# EAGLE library part M4-32-T48 (library amd-mach)
AMD MACH SERIES
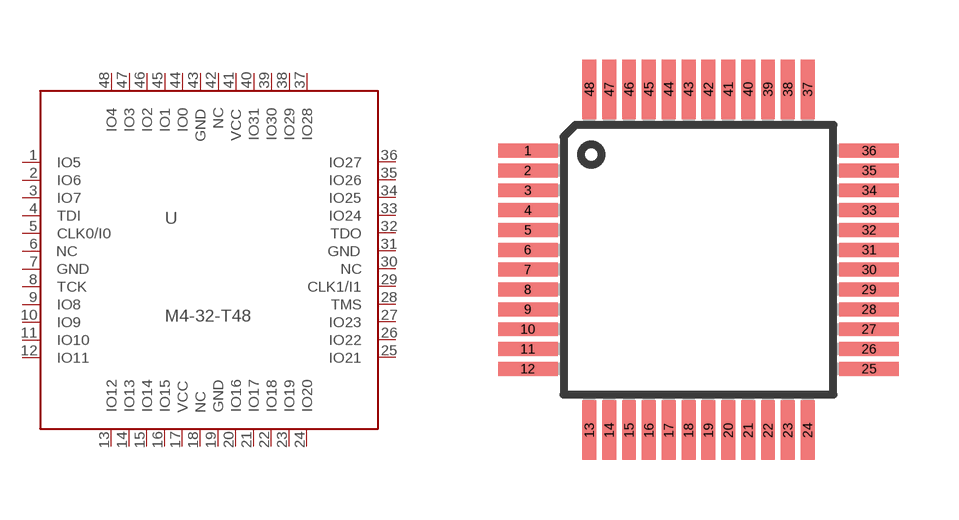
[diagram p18: symbol with the pads of TQFP48; footprint TQFP48]

Designator prefix U

## M4-32-T48  [TQFP48]
1  IO5
2  IO6
3  IO7
4  TDI  in
5  CLK0/I0  in
6  NC  nc
7  GND  pwr
8  TCK  in
9  IO8
10  IO9
11  IO10
12  IO11
13  IO12
14  IO13
15  IO14
16  IO15
17  VCC  pwr
18  NC2  nc
19  GND  pwr
20  IO16
21  IO17
22  IO18
23  IO19
24  IO20
25  IO21
26  IO22
27  IO23
28  TMS  in
29  CLK1/I1  in
30  NC3  nc
31  GND  pwr
32  TDO  out
33  IO24
34  IO25
35  IO26
36  IO27
37  IO28
38  IO29
39  IO30
40  IO31
41  VCC  pwr
42  NC4  nc
43  GND  pwr
44  IO0
45  IO1
46  IO2
47  IO3
48  IO4

## Footprint TQFP48 (pad centres in mm)
THIN QUAD FLAT PACK
smd 1.5 x 0.35: 1 -4.3,2.75; 2 -4.3,2.25; 3 -4.3,1.75; 4 -4.3,1.25; 5 -4.3,0.75; 6 -4.3,0.25; 7 -4.3,-0.25; 8 -4.3,-0.75; 9 -4.3,-1.25; 10 -4.3,-1.75; 11 -4.3,-2.25; 12 -4.3,-2.75; 25 4.3,-2.75; 26 4.3,-2.25; 27 4.3,-1.75; 28 4.3,-1.25; 29 4.3,-0.75; 30 4.3,-0.25; 31 4.3,0.25; 32 4.3,0.75; 33 4.3,1.25; 34 4.3,1.75; 35 4.3,2.25; 36 4.3,2.75
smd 0.35 x 1.5: 13 -2.75,-4.3; 14 -2.25,-4.3; 15 -1.75,-4.3; 16 -1.25,-4.3; 17 -0.75,-4.3; 18 -0.25,-4.3; 19 0.25,-4.3; 20 0.75,-4.3; 21 1.25,-4.3; 22 1.75,-4.3; 23 2.25,-4.3; 24 2.75,-4.3; 37 2.75,4.3; 38 2.25,4.3; 39 1.75,4.3; 40 1.25,4.3; 41 0.75,4.3; 42 0.25,4.3; 43 -0.25,4.3; 44 -0.75,4.3; 45 -1.25,4.3; 46 -1.75,4.3; 47 -2.25,4.3; 48 -2.75,4.3